# EAGLE library part RASPI_LCD_4X20 (library USSTCM)
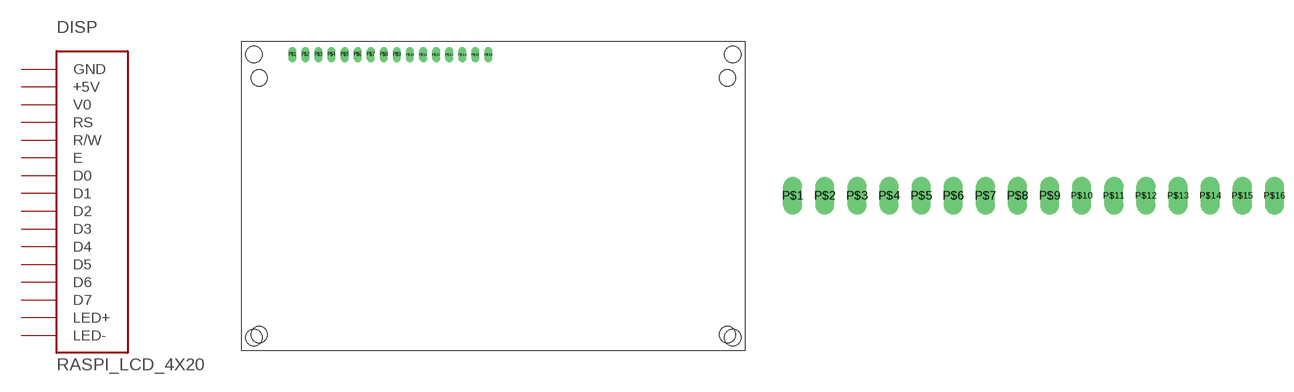
[diagram p7: symbol with the pads of RASPI_4X20; footprints RASPI_4X20, RASPI_4X20_NO_HOLES]

Designator prefix DISP

## RASPI_LCD_4X20  [RASPI_4X20]
P$1  GND
P$2  +5V
P$3  V0
P$4  RS
P$5  R/W
P$6  E
P$7  D0
P$8  D1
P$9  D2
P$10  D3
P$11  D4
P$12  D5
P$13  D6
P$14  D7
P$15  LED+
P$16  LED-

## RASPI_LCD_4X20NO_HOLES  [RASPI_4X20_NO_HOLES]
Pads as for RASPI_4X20

## Footprint RASPI_4X20 (pad centres in mm)
drill 1 long: P$1 9.96,57.48; P$2 12.5,57.48; P$3 15.04,57.48; P$4 17.58,57.48; P$5 20.12,57.48; P$6 22.66,57.48; P$7 25.2,57.48; P$8 27.74,57.48; P$9 30.28,57.48; P$10 32.82,57.48; P$11 35.36,57.48; P$12 37.9,57.48; P$13 40.44,57.48; P$14 42.98,57.48; P$15 45.52,57.48; P$16 48.06,57.48
hole 3.2 at 2.5,57.5
hole 3.2 at 95.5,57.5
hole 3.2 at 3.5,53
hole 3.2 at 94.5,53

## Footprint RASPI_4X20_NO_HOLES (pad centres in mm)
drill 1 long: P$1 9.96,57.48; P$2 12.5,57.48; P$3 15.04,57.48; P$4 17.58,57.48; P$5 20.12,57.48; P$6 22.66,57.48; P$7 25.2,57.48; P$8 27.74,57.48; P$9 30.28,57.48; P$10 32.82,57.48; P$11 35.36,57.48; P$12 37.9,57.48; P$13 40.44,57.48; P$14 42.98,57.48; P$15 45.52,57.48; P$16 48.06,57.48